# Altium schematic symbol library TCPP01-M12.SchLib: 1 symbol
Pins are listed as number, name and electrical type; pins without a type are passive.

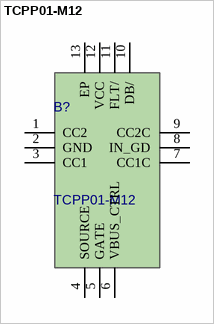
[diagram p0: symbol TCPP01-M12]

## TCPP01-M12
designator B?
USB Type-C and power delivery protection for sink application; Manufacturer_Name: STMicroelectronics; Geometry.Height: 1mm; Manufacturer_Part_Number: TCPP01-M12; Mouser Part Number: 511-TCPP01-M12; Mouser Price/Stock: https://www.mouser.co.uk/ProductDetail/STMicroelectronics/TCPP01-M12?qs=%252B6g0mu59x7KCafIwapwG2A%3D%3D; Arrow Part Number: TCPP01-M12; Arrow Price/Stock: https://www.arrow.com/en/products/tcpp01-m12/stmicroelectronics.html?utm_currency=USD&region=europe; Datasheet Link: https://www.st.com/resource/en/datasheet/tcpp01-m12.pdf
footprint QFN50P300X300X100-13N-D
pins: 1 CC2, 2 GND, 3 CC1, 4 SOURCE, 5 GATE, 6 VBUS_CTRL, 7 CC1C, 8 IN_GD, 9 CC2C, 10 DB/, 11 FLT/, 12 VCC, 13 EP